# Altium footprint library AL_ELEC_SMD_B.PcbLib: 1 footprints
Each footprint in its own frame and in the unit in brackets; x right, y up, seen from the top. Pads: shape width x height; smd on the part's side, far side on the other; paste and mask are expansions set on the pad; w line width, h text height; cw(c..) or ccw(c..) is an arc to the next point about the centre after c.
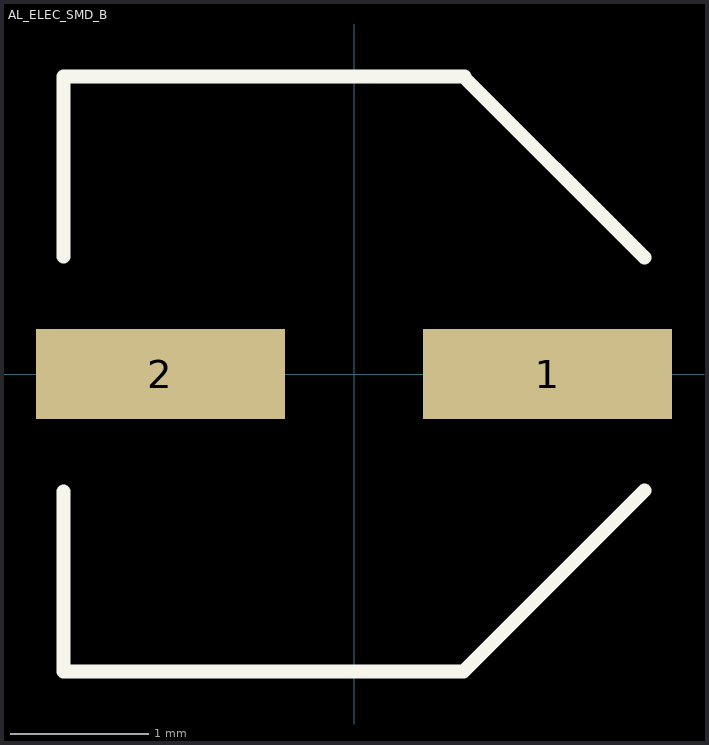
[diagram p0: the footprint, top view; thin cyan lines are the x and y axes]

## AL_ELEC_SMD_B [mm]
pads (2):
  rect 1.8x0.65 smd: 1(1.4,0) 2(-1.4,0)
Top Overlay:
  lines w0.1: -2.1,-0.85 -2.1,-2.15 0.792,-2.15 2.1,-0.842 ; -2.1,0.85 -2.1,2.15 0.8,2.15 0.8,2.142 2.1,0.842